# Altium footprint library Transistor_SMD.PcbLib: 3 footprints
Each footprint in its own frame and in the unit in brackets; x right, y up, seen from the top. Pads: shape width x height; smd on the part's side, far side on the other; paste and mask are expansions set on the pad; w line width, h text height; cw(c..) or ccw(c..) is an arc to the next point about the centre after c.
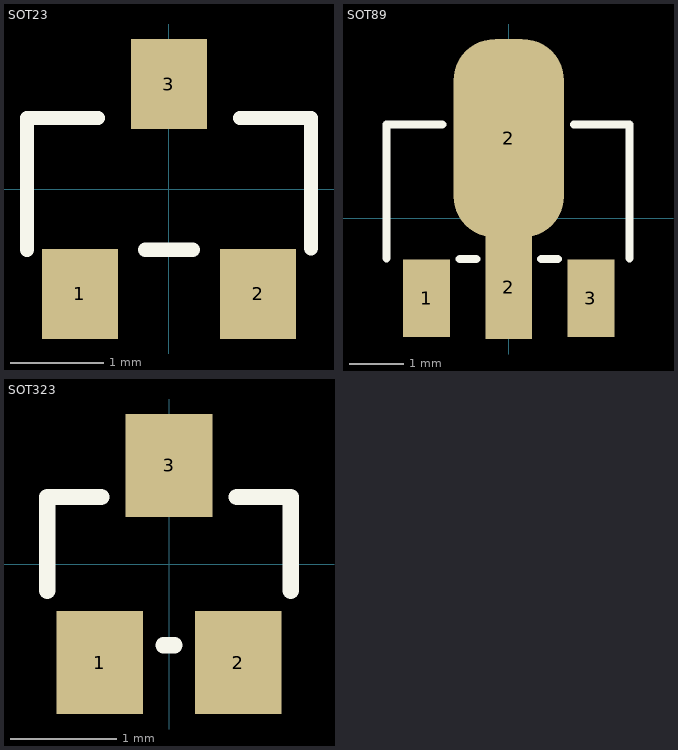
[diagram p0: the footprints below, top view; thin cyan lines are the x and y axes]

## SOT23 [mil]
pads (3):
  rect 32x38 smd: 1(-37.6,-44.33) 2(37.6,-44.33) 3(0,44.33)
Top Overlay:
  lines w6: -60,-25.67 -60,30 -30,30 ; -10,-25.67 10,-25.67 ; 30,30 60,30 60,-25
3D body: height 40.16, standoff 0, extent -57.48,-49.21 57.49,48.28

## SOT89 [mil]
pads (4):
  rect 34x56 smd: 1(-59.51,-58) 3(59.51,-58)
  rect 34x75 smd: 2(0,-50)
  rrect75% 80x144 smd: 2(0,58)
Top Overlay:
  lines w6: -88.58,-29.02 -88.58,68 -48.23,68 ; -35.43,-29.53 -23.62,-29.53 ; 23.62,-29.53 35.43,-29.53 ; 47.24,68 87.51,68 87.51,-29.02
3D body: height 60.63, standoff 0, extent -88.58,-67.91 88.58,99.41

## SOT323 [mil]
pads (3):
  rect 32x38 smd: 1(-25.59,-36.42) 2(25.59,-36.42) 3(0,36.42)
Top Overlay:
  lines w6: -45,-9.84 -45,24.75 -25,24.75 ; -2,-30 2,-30 ; 25,24.75 45,24.75 45,-9.84
3D body: height 39.37, standoff 0, extent -41.33,-45.27 41.34,45.28